# Altium footprint library 0527450797.PcbLib: 1 footprints
Each footprint in its own frame and in the unit in brackets; x right, y up, seen from the top. Pads: shape width x height; smd on the part's side, far side on the other; paste and mask are expansions set on the pad; w line width, h text height; cw(c..) or ccw(c..) is an arc to the next point about the centre after c.
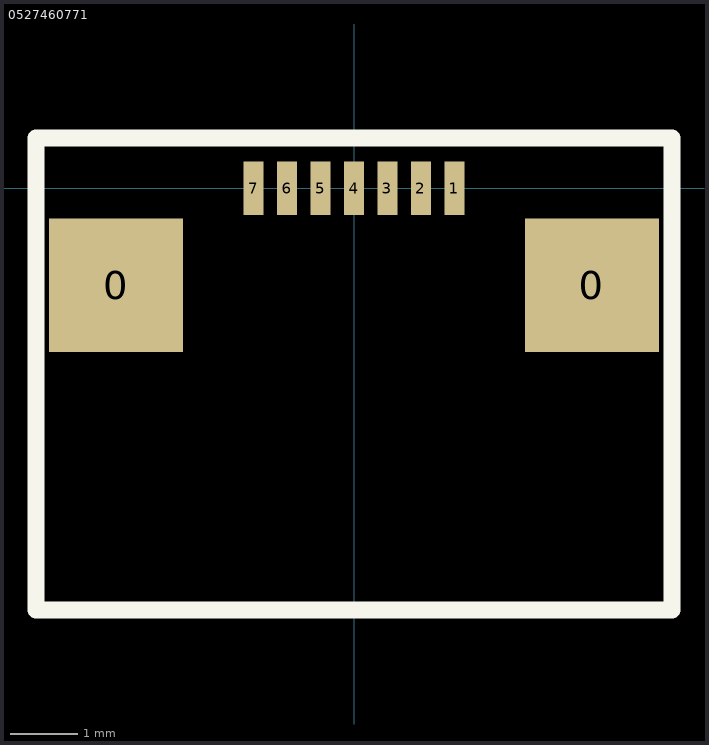
[diagram p0: the footprint, top view; thin cyan lines are the x and y axes]

## 0527460771 [mm]
pads (9):
  rect 2x2 smd: 0(-3.55,-1.45) 0(3.55,-1.45)
  rect 0.3x0.8 smd: 1(1.5,0) 2(1,0) 3(0.5,0) 4(0,0) 5(-0.5,0) 6(-1,0) 7(-1.5,0)
Top Overlay:
  lines w0.254: -4.75,-6.3 4.75,-6.3 4.75,0.75 -1.35,0.75 -4.75,0.75 -4.75,-6.3
3D body: height 2, standoff 0, extent -4.8,-6.1 4.8,0.5